# Altium schematic symbol library 07_Optoelectronic.SchLib: 9 symbols
Pins are listed as number, name and electrical type; pins without a type are passive.

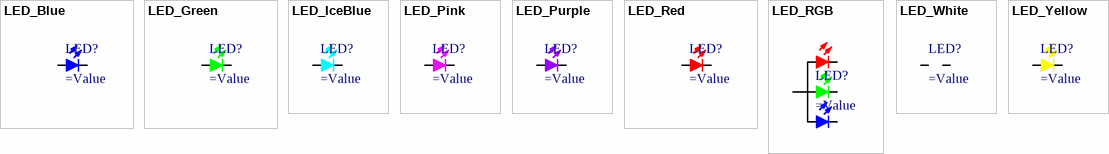
[diagram p0: symbols LED_Blue to LED_Yellow]

## LED_Blue
designator LED?
标准蓝色LED
pins: 1 A, 2 K

## LED_Green
designator LED?
标准绿色LED
pins: 1 A, 2 K

## LED_IceBlue
designator LED?
标准冰蓝色LED
pins: 1 A, 2 K

## LED_Pink
designator LED?
标准粉色LED
pins: 1 A, 2 K

## LED_Purple
designator LED?
标准紫色LED
pins: 1 A, 2 K

## LED_Red
designator LED?
标准红色LED
pins: 1 A, 2 K

## LED_RGB
designator LED?
标准RGB LED
pins: 1 K, 2 K, 3 A, 4 K

## LED_White
designator LED?
标准白色LED
pins: 1 A, 2 K

## LED_Yellow
designator LED?
标准黄色LED
pins: 1 A, 2 K